# EAGLE library part HLE-116-02-F-DV-BE-A-K (library Pygmy)
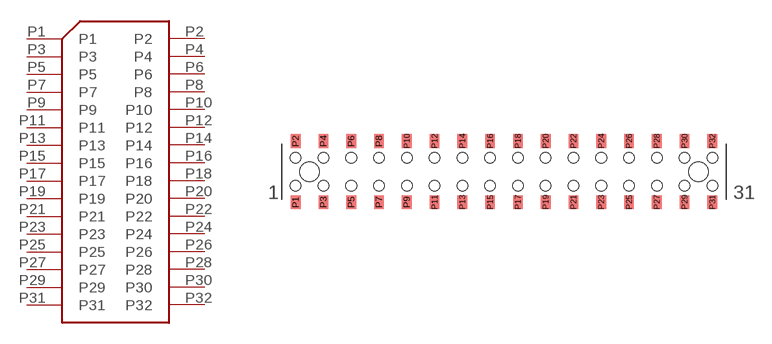
[diagram p79: symbol with the pads of HLE-116-02-F-DV-BE-A-K; footprint HLE-116-02-F-DV-BE-A-K]

Designator prefix -

## HLE-116-02-F-DV-BE-A-K  [HLE-116-02-F-DV-BE-A-K]
P1  P1
P2  P2
P3  P3
P4  P4
P5  P5
P6  P6
P7  P7
P8  P8
P9  P9
P10  P10
P11  P11
P12  P12
P13  P13
P14  P14
P15  P15
P16  P16
P17  P17
P18  P18
P19  P19
P20  P20
P21  P21
P22  P22
P23  P23
P24  P24
P25  P25
P26  P26
P27  P27
P28  P28
P29  P29
P30  P30
P31  P31
P32  P32

## Footprint HLE-116-02-F-DV-BE-A-K (pad centres in mm)
smd 0.889 x 1.27: P1 -1.27,-2.794; P2 -1.27,2.794; P3 1.27,-2.794; P4 1.27,2.794; P5 3.81,-2.794; P6 3.81,2.794; P7 6.35,-2.794; P8 6.35,2.794; P9 8.89,-2.794; P10 8.89,2.794; P11 11.43,-2.794; P12 11.43,2.794; P13 13.97,-2.794; P14 13.97,2.794; P15 16.51,-2.794; P16 16.51,2.794; P17 19.05,-2.794; P18 19.05,2.794; P19 21.59,-2.794; P20 21.59,2.794; P21 24.13,-2.794; P22 24.13,2.794; P23 26.67,-2.794; P24 26.67,2.794; P25 29.21,-2.794; P26 29.21,2.794; P27 31.75,-2.794; P28 31.75,2.794; P29 34.29,-2.794; P30 34.29,2.794; P31 36.83,-2.794; P32 36.83,2.794
hole 0.965 at -1.27,1.27
hole 0.965 at -1.27,-1.27
hole 0.965 at 1.27,-1.27
hole 0.965 at 8.89,-1.27
hole 0.965 at 1.27,1.27
hole 0.965 at 3.81,1.27
hole 0.965 at 6.35,1.27
hole 0.965 at 8.89,1.27
hole 0.965 at 11.43,1.27
hole 0.965 at 13.97,1.27
hole 0.965 at 16.51,1.27
hole 0.965 at 19.05,1.27
hole 0.965 at 21.59,1.27
hole 0.965 at 24.13,1.27
hole 0.965 at 26.67,1.27
hole 0.965 at 29.21,1.27
hole 0.965 at 36.83,-1.27
hole 0.965 at 34.29,-1.27
hole 0.965 at 31.75,-1.27
hole 0.965 at 29.21,-1.27
hole 0.965 at 26.67,-1.27
hole 0.965 at 24.13,-1.27
hole 0.965 at 21.59,-1.27
hole 0.965 at 19.05,-1.27
hole 0.965 at 16.51,-1.27
hole 0.965 at 13.97,-1.27
hole 0.965 at 11.43,-1.27
hole 1.778 at 0,0
hole 1.778 at 35.56,0
hole 0.965 at 31.75,1.27
hole 0.965 at 34.29,1.27
hole 0.965 at 36.83,1.27
hole 0.965 at 3.81,-1.27
hole 0.965 at 6.35,-1.27